# Altium schematic symbol library Buck_Converter_1.SCHLIB: 15 symbols
Pins are listed as number, name and electrical type; pins without a type are passive.

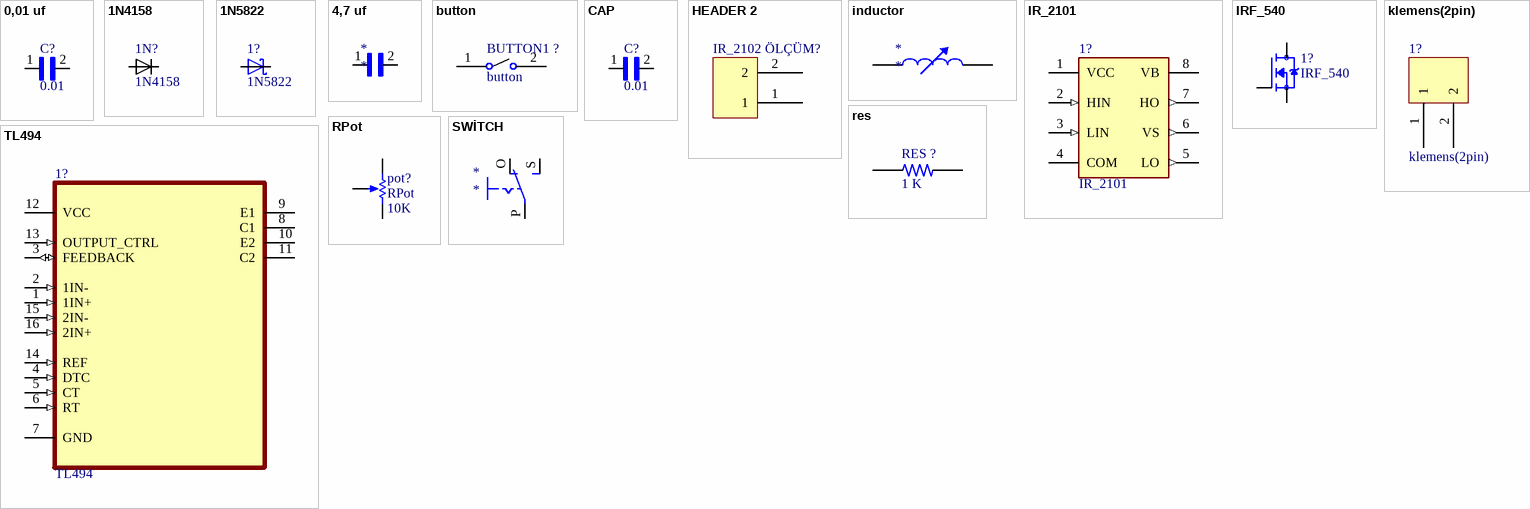
[diagram p0: symbols 0,01 uf to TL494]

## 0,01 uf
designator C?, comment 0.01
footprint 0,01 uf
pins: 1, 2

## 1N4158
designator 1N?
footprint 1N4158
pins: A, C

## 1N5822
designator 1?
footprint 1N5822
pins: A, C

## 4,7 uf
designator *
footprint 4,7 uf
pins: 1, 2

## button
designator BUTTON1 ?
footprint Model Name (Footprint not found)
footprint button
pins: 1, 2

## CAP
designator C?, comment 0.01
footprint CAP
footprint 22uf CAP
pins: 1, 2

## HEADER 2
designator IR_2102 ÖLÇÜM?
footprint HEADEDR 2
pins: 1, 2

## inductor
designator *
footprint INDUCTOR
pins: 1, 2

## IR_2101
designator 1?
footprint IR_2101
pins: 1 VCC (power), 2 HIN (in), 3 LIN (in), 4 COM (power), 5 LO (out), 6 VS (out), 7 HO (out), 8 VB (power)

## IRF_540
designator 1?
footprint IRF_540
pins: 1 G, 2 D, 3 S

## klemens(2pin)
designator 1?
footprint klemens
pins: 1, 2

## res
designator RES ?, comment 1 K
footprint res
pins: 1, 2

## RPot
designator pot?  value 10K
Potentiometer; Sim Note: Enter the Resistance value and the set point into parameter fields.; Set Position: 0.5; Published: 8-Jun-2000; LatestRevisionDate: 17-Jul-2002; LatestRevisionNote: Re-released for DXP Platform.; PackageReference: VR5; Publisher: Altium Limited; PackageDescription: Variable Resistor, Thru-Hole; 3 Leads
simulation model POT (Potentiometer)
footprint POT
pins: 1 TOP, 2 BOT, 3 TAP
1 alternate drawing of the same symbol

## SWİTCH
designator *
footprint SWİTCH
pins: O, P, S

## TL494
designator 1?
footprint TL_494
pins: 1 1IN+ (in), 2 1IN- (in), 3 FEEDBACK (io), 4 DTC (in), 5 CT (in), 6 RT (in), 7 GND, 8 C1, 9 E1, 10 E2, 11 C2, 12 VCC (power), 13 OUTPUT_CTRL (in), 14 REF (in), 15 2IN- (in), 16 2IN+ (in)